# Altium schematic symbol library SCH - DAC - TI DAC121S101CIMK.SCHLIB: 1 symbol
Pins are listed as number, name and electrical type; pins without a type are passive.

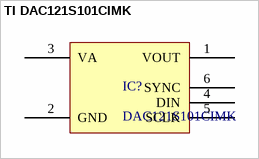
[diagram p0: symbol TI DAC121S101CIMK]

## TI DAC121S101CIMK
designator IC?, comment DAC121S101CIMK
DAC121S101/-Q1 12-Bit Micro Power, RRO Digital-to-Analog Converter
pins: 1 VOUT, 2 GND, 3 VA, 4 DIN, 5 SCLK, 6 SYNC